# Altium footprint library PCB - LEADED - TSSOP50P510X110_HS-17N.PCBLIB: 1 footprints
Each footprint in its own frame and in the unit in brackets; x right, y up, seen from the top. Pads: shape width x height; smd on the part's side, far side on the other; paste and mask are expansions set on the pad; w line width, h text height; cw(c..) or ccw(c..) is an arc to the next point about the centre after c.
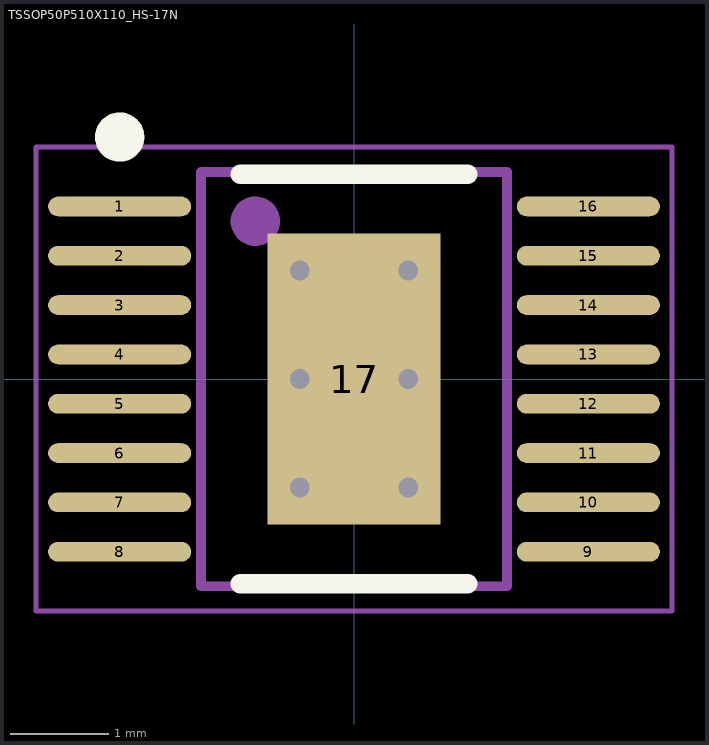
[diagram p0: the footprint, top view; thin cyan lines are the x and y axes]

## TSSOP50P510X110_HS-17N [mm] "TSSOP, 16-Leads, Body 4,03x3,00mm, Pitch 0,50mm, Thermal Pad 2,95x1,75mm, IPC Medium Density"
height 1.1
pads (17):
  oval 1.45x0.2 smd: 1(-2.375,1.75) 2(-2.375,1.25) 3(-2.375,0.75) 4(-2.375,0.25) 5(-2.375,-0.25) 6(-2.375,-0.75) 7(-2.375,-1.25) 8(-2.375,-1.75) 9(2.375,-1.75) 10(2.375,-1.25) 11(2.375,-0.75) 12(2.375,-0.25) 13(2.375,0.25) 14(2.375,0.75) 15(2.375,1.25) 16(2.375,1.75)
  rect 1.75x2.95 smd: 17(0,0)
via -0.55,1.1 diameter 0.5 hole 0.2
via 0.55,1.1 diameter 0.5 hole 0.2
via -0.55,0 diameter 0.5 hole 0.2
via 0.55,0 diameter 0.5 hole 0.2
via -0.55,-1.1 diameter 0.5 hole 0.2
via 0.55,-1.1 diameter 0.5 hole 0.2
Top Overlay:
  circle w0.25: c-2.375,2.452 r0.125
  lines w0.2: -1.15,-2.075 1.15,-2.075 ; -1.15,2.075 1.15,2.075
Top Assembly:
  circle w0.25: c-1,1.6 r0.125
  lines w0.1: -1.55,-2.1 -1.55,2.1 1.55,2.1 1.55,-2.1 -1.55,-2.1
Top Courtyard:
  lines w0.05: -3.225,-2.35 -3.225,2.35 3.225,2.35 3.225,-2.35 -3.225,-2.35
Top Designator:
  text ".Designator" at 3.9,-0.4 h1
Top Component Center:
  lines w0.1: -0.5,0 0.5,0 ; 0,-0.5 0,0.5
Top Value:
  text ".Comment" at 3.9,-1.1 h1
3D body: height 1.1, standoff 0.1, extent -1.55,-2.1 1.55,2.1